# EAGLE library part G6A-434P (library relay)
RELAY 4 x switch, 0.3 A/125 V AC, 1 A/30 V DC, Omron
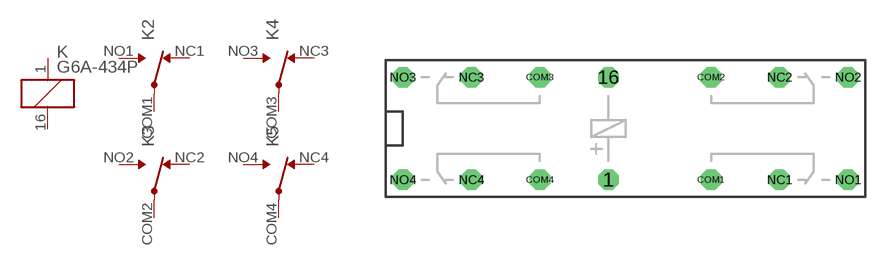
[diagram p7: symbol with the pads of G6A-434P; footprint G6A-434P]

Designator prefix K; gates 1=K 2=U 3=U 4=U 5=U

## G6A-434P  [G6A-434P]
1  1:1  pas
16  1:2  pas
COM1  2:COM  pas
COM2  3:COM  pas
COM3  4:COM  pas
COM4  5:COM  pas
NC1  2:NC  pas
NC2  3:NC  pas
NC3  4:NC  pas
NC4  5:NC  pas
NO1  2:NO  pas
NO2  3:NO  pas
NO3  4:NO  pas
NO4  5:NO  pas

## Footprint G6A-434P (pad centres in mm)
RELAY 4 x switch, 0.3 A/125 V AC, 1 A/30 V DC, Omron
drill 1.016 octagon: 1 3.81,-3.81; 16 3.81,3.81; COM1 11.43,-3.81; COM2 11.43,3.81; COM3 -1.27,3.81; COM4 -1.27,-3.81; NC1 16.51,-3.81; NC2 16.51,3.81; NC3 -6.35,3.81; NC4 -6.35,-3.81; NO1 21.59,-3.81; NO2 21.59,3.81; NO3 -11.43,3.81; NO4 -11.43,-3.81